# EAGLE library part AS7058 (library WLCSP42)
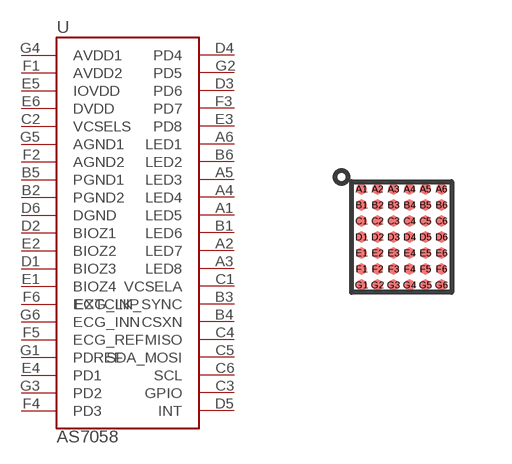
[diagram p0: symbol with the pads of WLCSP42; footprint WLCSP42]

Designator prefix U

## AS7058  [WLCSP42]
A1  LED5  in
A2  LED7  in
A3  LED8  in
A4  LED4  in
A5  LED3  in
A6  LED1  in
B1  LED6  in
B2  PGND2  pwr
B3  EXTCLK_SYNC  in
B4  CSXN  in
B5  PGND1  pwr
B6  LED2  in
C1  VCSELA  out
C2  VCSELS  pwr
C3  GPIO
C4  MISO  out
C5  SDA_MOSI
C6  SCL  in
D1  BIOZ3
D2  BIOZ1
D3  PD6  in
D4  PD4  in
D5  INT  out
D6  DGND  pwr
E1  BIOZ4
E2  BIOZ2
E3  PD8  in
E4  PD1  in
E5  IOVDD  pwr
E6  DVDD  pwr
F1  AVDD2  pwr
F2  AGND2  pwr
F3  PD7  in
F4  PD3  in
F5  ECG_REF  out
F6  ECG_INP  in
G1  PDREF  out
G2  PD5  in
G3  PD2  in
G4  AVDD1  pwr
G5  AGND1  pwr
G6  ECG_INN  in

## Footprint WLCSP42 (pad centres in mm)
smd 0.27 x 0.27: A1 -1,1.2; A2 -0.6,1.2; A3 -0.2,1.2; A4 0.2,1.2; A5 0.6,1.2; A6 1,1.2; B1 -1,0.8; B2 -0.6,0.8; B3 -0.2,0.8; B4 0.2,0.8; B5 0.6,0.8; B6 1,0.8; C1 -1,0.4; C2 -0.6,0.4; C3 -0.2,0.4; C4 0.2,0.4; C5 0.6,0.4; C6 1,0.4; D1 -1,0; D2 -0.6,0; D3 -0.2,0; D4 0.2,0; D5 0.6,0; D6 1,0; E1 -1,-0.4; E2 -0.6,-0.4; E3 -0.2,-0.4; E4 0.2,-0.4; E5 0.6,-0.4; E6 1,-0.4; F1 -1,-0.8; F2 -0.6,-0.8; F3 -0.2,-0.8; F4 0.2,-0.8; F5 0.6,-0.8; F6 1,-0.8; G1 -1,-1.2; G2 -0.6,-1.2; G3 -0.2,-1.2; G4 0.2,-1.2; G5 0.6,-1.2; G6 1,-1.2